# EAGLE library part MRA112 (library pi-frontpanel)
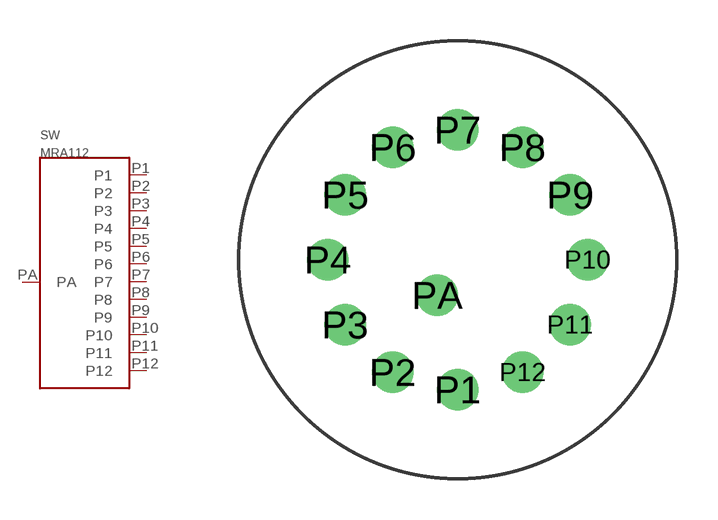
[diagram p0: symbol with the pads of MRA112; footprint MRA112]

Designator prefix SW

## MRA112  [MRA112]
P1  P1
P2  P2
P3  P3
P4  P4
P5  P5
P6  P6
P7  P7
P8  P8
P9  P9
P10  P10
P11  P11
P12  P12
PA  PA

## Footprint MRA112 (pad centres in mm)
drill 1: P1 0,-4.75; P2 -2.375,-4.114; P3 -4.114,-2.375; P4 -4.75,0; P5 -4.114,2.375; P6 -2.375,4.114; P7 0,4.75; P8 2.375,4.114; P9 4.114,2.375; P10 4.75,0; P11 4.114,-2.375; P12 2.375,-4.114; PA -0.75,-1.299